# Altium footprint library SOT23-6.PcbLib: 1 footprints
Each footprint in its own frame and in the unit in brackets; x right, y up, seen from the top. Pads: shape width x height; smd on the part's side, far side on the other; paste and mask are expansions set on the pad; w line width, h text height; cw(c..) or ccw(c..) is an arc to the next point about the centre after c.
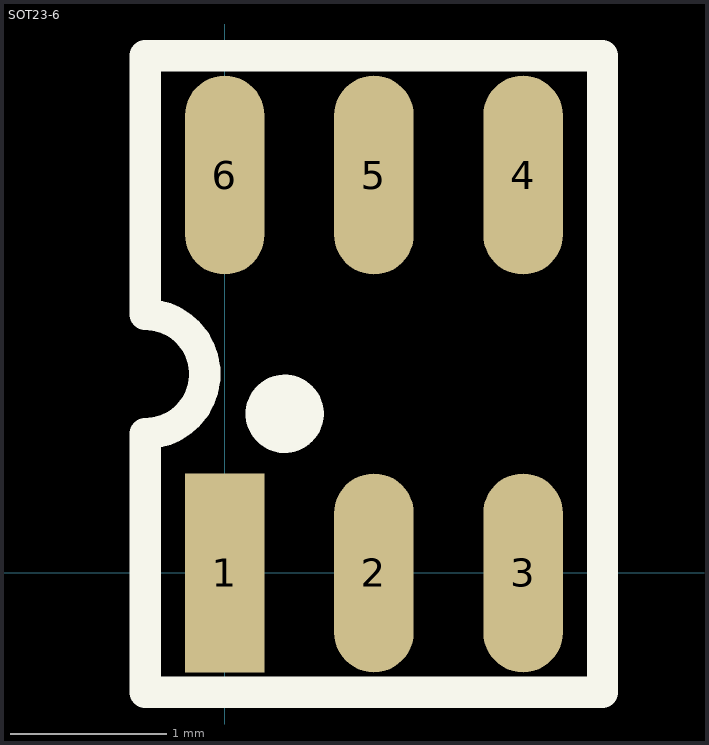
[diagram p0: the footprint, top view; thin cyan lines are the x and y axes]

## SOT23-6 [mil]
pads (6):
  rect 20x50 smd: 1(0,0)
  oval 20x50 smd: 2(37.5,0) 3(75,0) 4(75,100) 5(37.5,100) 6(0,100)
Top Overlay:
  circle w9.84: c15.08,40 r4.92
  lines w7.87: -20,-30 95,-30 95,130 -20,130 -20,65 cw(c-20,50) -20,35 -20,-30